# EAGLE library part LTC3670 (library PowerProducts)
LT-Spice library generated with : ltspice.ulp from: D:/Program Files (x86)/LTC/LTspiceIV/lib/sym/PowerProducts/LTC3672B-1*.asy at 07.10.2012 18:28:08
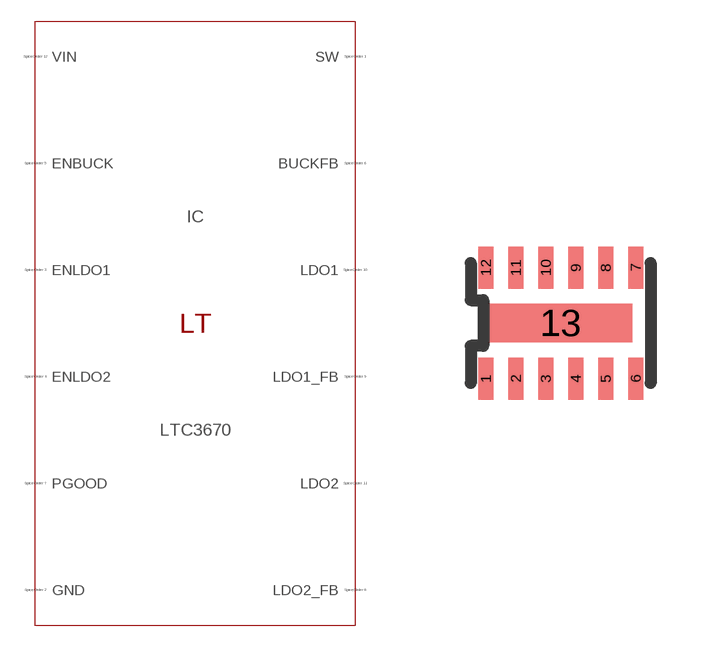
[diagram p276: symbol with the pads of DFN12(DDB); footprint DFN12(DDB)]

Designator prefix IC

## LTC3670 (SPICEMODEL: LTC3670.sub; SPICEPREFIX: X; VALUE2: LTC3670)  [DFN12(DDB)]
1  SW  pas
2  GND  pas
3  ENLDO1  pas
4  ENLDO2  pas
5  ENBUCK  pas
6  BUCKFB  pas
7  PGOOD  pas
8  LDO2_FB  pas
9  LDO1_FB  pas
10  LDO1  pas
11  LDO2  pas
12  VIN  pas
13  GND  pas

## Footprint DFN12(DDB) (pad centres in mm)
Package generated from: DFN12(DDB).asc (!PADS-POWERPCB-V5.0-BASIC! DESIGN DATABASE ASCII FILE 1.0) with :import-pads-powerpcb-v5.ulp Version 1.0.1 at 04.10.2012 14:11:16
smd 0.375 x 1.05: 1 -1.875,-1.387; 2 -1.125,-1.387; 3 -0.375,-1.387; 4 0.375,-1.387; 5 1.125,-1.387; 6 1.875,-1.387; 7 1.875,1.387; 8 1.125,1.387; 9 0.375,1.387; 10 -0.375,1.387; 11 -1.125,1.387; 12 -1.875,1.387
smd 3.585 x 0.96: 13 0,0